# EAGLE library part ADR45XX (library 74xx)
ADR45XX edit this description Auto generated by make-symbol-device-package-bsdl.ulp Rev. 43 Source: ADR45XX.txt
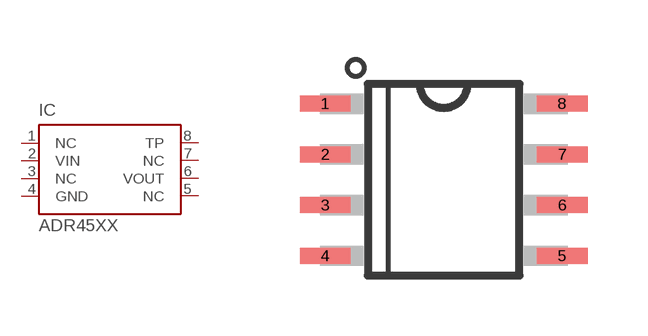
[diagram p2: symbol with the pads of SO8; footprint SO8]

Designator prefix IC

## ADR45XX  [SO8]
1  NC
2  VIN  pwr
3  NC
4  GND  pwr
5  NC
6  VOUT  pwr
7  NC
8  TP

## Footprint SO8 (pad centres in mm)
SO8 Auto generated by make-symbol-device-package-bsdl.ulp Rev. 43
smd 1.27 x 0.4: 1 -2.965,1.905; 2 -2.965,0.635; 3 -2.965,-0.635; 4 -2.965,-1.905; 5 2.965,-1.905; 6 2.965,-0.635; 7 2.965,0.635; 8 2.965,1.905